# Altium footprint library Source Selector.PcbLib: 20 footprints (part 1 of 2)
Each footprint in its own frame and in the unit in brackets; x right, y up, seen from the top. Pads: shape width x height; smd on the part's side, far side on the other; paste and mask are expansions set on the pad; w line width, h text height; cw(c..) or ccw(c..) is an arc to the next point about the centre after c.
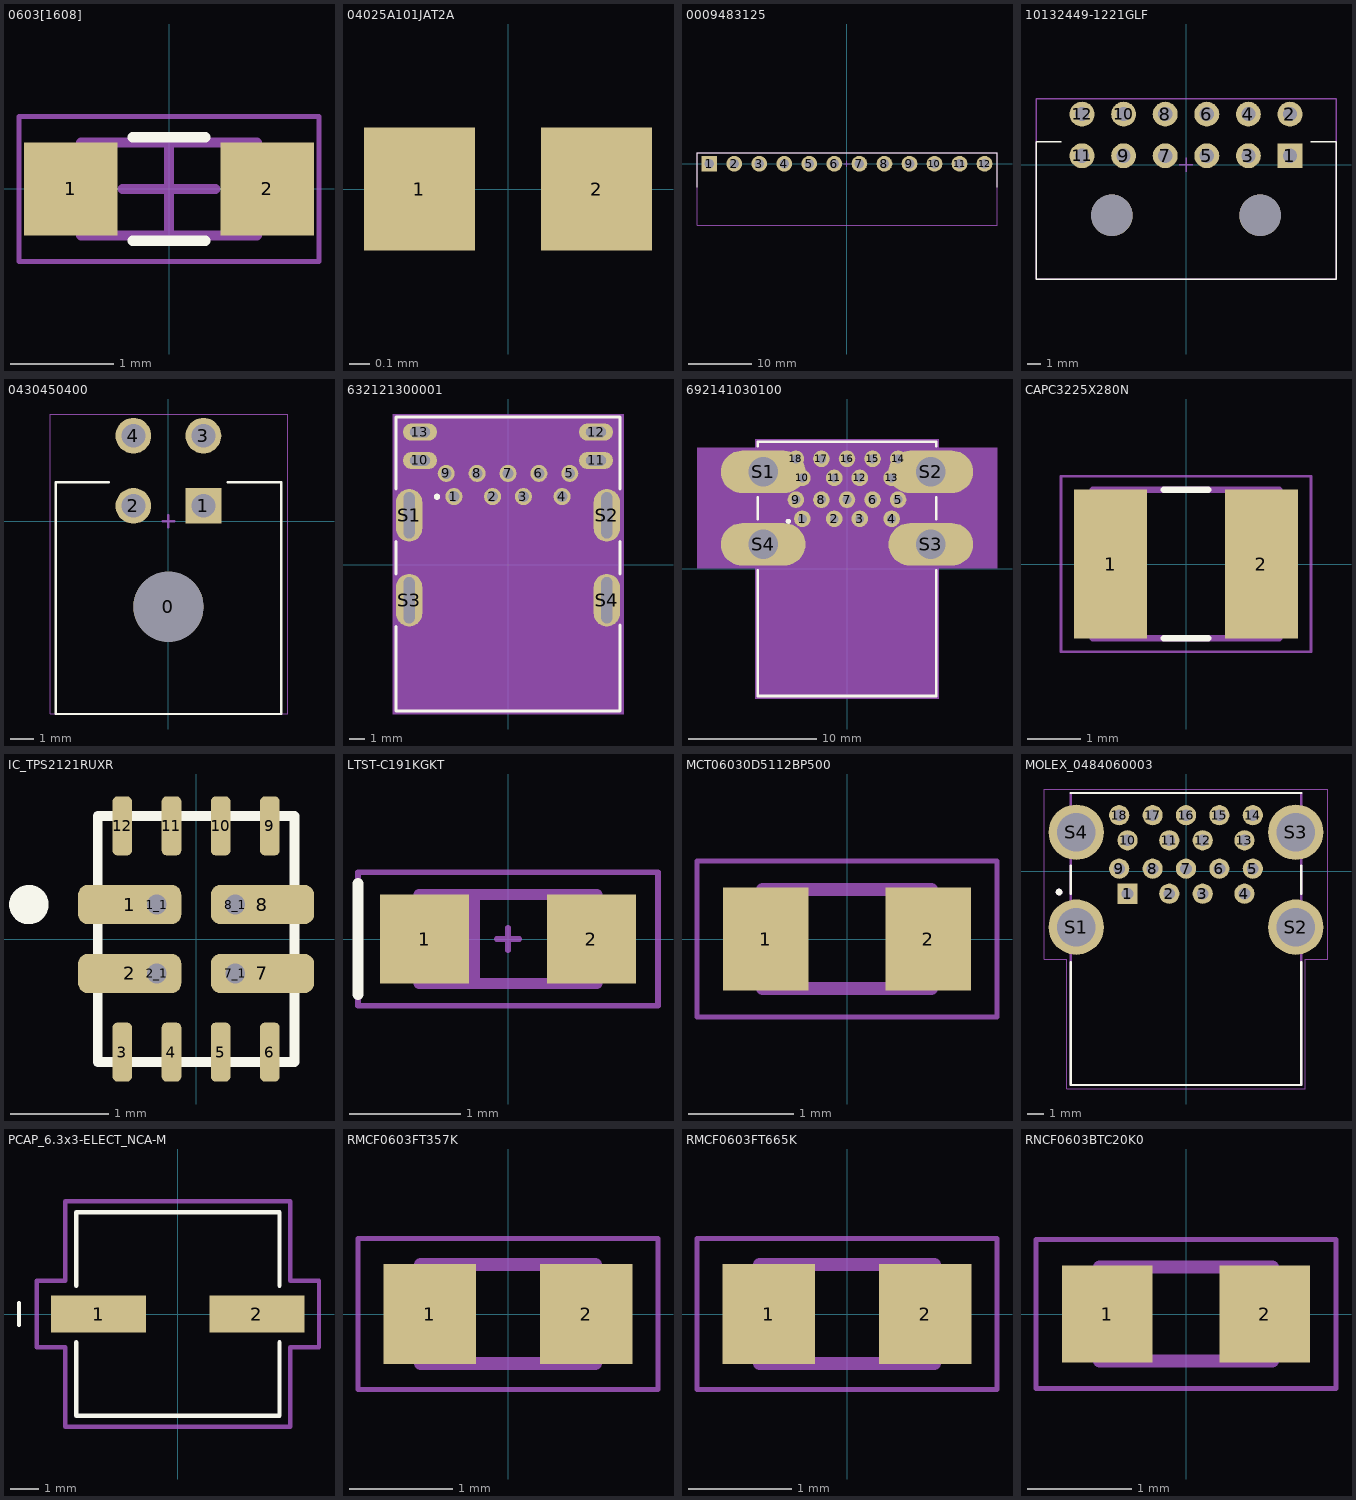
[diagram p0: the footprints below, top view; thin cyan lines are the x and y axes]

## 0603[1608] [mm]
pads (2):
  rect 0.9x0.9 smd mask+0.05: 1(-0.95,0) 2(0.95,0)
Top Overlay:
  lines w0.1: -0.35,-0.5 0.35,-0.5 ; -0.35,0.5 0.35,0.5
Top Component Outline:
  lines w0.05: -1.45,-0.7 -1.45,0.7 1.45,0.7 1.45,-0.7 -1.45,-0.7
  lines w0.1: -0.45,0 0.45,0 ; 0,-0.45 0,0.45 ; -0.85,-0.45 0.85,-0.45 0.85,0.45 -0.85,0.45 -0.85,-0.45
3D body "RESC1608X06N.step": height 0.55, standoff 0, extent -0.85,-0.45 0.85,0.45

## 04025A101JAT2A [mm]
pads (2):
  rect 0.54x0.6 smd: 1(-0.432,0) 2(0.432,0)
3D body "GRM1555C1H101JZ01J.STEP": height 0.48, standoff -0.02, extent -0.525,-0.271 0.475,0.279

## 0009483125 [mm] "CONN RCPT 12P 0.156 GOLD EDGE MT"
height 7.82
pads (12):
  rect 2.5x2.5 hole 1.52: 1(-21.78,0)
  round 2.5 hole 1.52: 2(-17.82,0) 3(-13.86,0) 4(-9.9,0) 5(-5.94,0) 6(-1.98,0) 7(1.98,0) 8(5.94,0) 9(9.9,0) 10(13.86,0) 11(17.82,0) 12(21.78,0)
Top Overlay:
  lines w0.1: -23.71,-3.75 -23.71,1.7 23.749,1.7 23.749,-3.75
Top Component Outline:
  lines w0.1: -0.508,0 0.508,0 ; 0,-0.508 0,0.508 ; -23.71,-9.7 -23.71,1.7 23.749,1.7 23.749,-9.7 -23.71,-9.7
3D body "009483125.stp": height 7.89, standoff -4, extent -23.71,-9.7 23.737,1.7

## 10132449-1221GLF [mm] "CONN HEADER R/A 12POS 3MM"
height 7.35
pads (14):
  rect 1.8x1.8 hole 1.02 mask+0.05: 1(7.5,0.65)
  round 1.8 hole 1.02 mask+0.05: 2(7.5,3.65) 3(4.5,0.65) 4(4.5,3.65) 5(1.5,0.65) 6(1.5,3.65) 7(-1.5,0.65) 8(-1.5,3.65) 9(-4.5,0.65) 10(-4.5,3.65) 11(-7.5,0.65) 12(-7.5,3.65)
  round 3 hole 3 mask+0.05: ""(-5.35,-3.65) ""(5.35,-3.65)
Top Overlay:
  lines w0.1: -9,1.65 -10.825,1.65 -10.825,-8.25 10.825,-8.25 10.825,1.65 9,1.65 ; -9,1.65 -9,1.65 ; 9,1.65 9,1.65
Top Component Outline:
  lines w0.1: -0.5,0 0.5,0 ; 0,-0.5 0,0.5 ; -10.825,-8.25 -10.825,4.75 10.825,4.75 10.825,-8.25 -10.825,-8.25
3D body "10132449-12xxxlf.stp": height 8.78, standoff -3.18, extent -10.825,-8.25 10.825,3.971

## 0430450400 [mm] "4-Pin Molex 3.00mm Pitch"
height 8.77
pads (5):
  round 3 hole 3 unplated mask+0.05: 0(0,-3.66)
  rect 1.53x1.53 hole 1.02 mask+0.05: 1(1.5,0.66)
  round 1.53 hole 1.02 mask+0.05: 2(-1.5,0.66) 3(1.5,3.66) 4(-1.5,3.66)
Top Overlay:
  lines w0.1: -2.54,1.675 -4.825,1.675 -4.825,-8.25 4.825,-8.25 4.825,1.675 2.54,1.675
Top Component Outline:
  lines w0.05: -5.05,-8.25 -5.05,4.59 5.1,4.59 5.1,-8.25 -5.05,-8.25
  lines w0.1: -0.25,0 0.25,0 ; 0,-0.25 0,0.25
3D body "430450400.stp": height 8.83, standoff -3.12, extent -5.05,-8.25 5.1,3.99

## 632121300001 [mm]
pads (17):
  round 1.1 hole 0.7: 1(-3.5,4.425) 2(-1,4.425) 3(1,4.425) 4(3.5,4.425) 5(4,5.925) 6(2,5.925) 7(0,5.925) 8(-2,5.925) 9(-4,5.925)
  oval 2.2x1.1 hole 0.7 slot 1.3 at 0 deg: 10(-5.7,6.765) 11(5.7,6.765) 12(5.7,8.605) 13(-5.7,8.605)
  oval 1.7x3.4 hole 0.7 slot 3 at 90 deg: S1(-6.4,3.215) S2(6.4,3.215) S3(-6.4,-2.285) S4(6.4,-2.285)
Top Overlay:
  circle w0.2: c-4.6,4.415 r0.1
  lines w0.2: -7.25,-3.985 -7.25,-9.455 7.25,-9.455 7.25,-3.885 ; -7.25,-0.585 -7.25,1.515 ; -7.25,4.915 -7.25,9.575 7.25,9.575 7.25,4.915 ; 7.25,-0.585 7.25,1.515
Mechanical 1:
  lines w0.01: -6.47,-3.785 -6.33,-3.785 ; -6.47,-0.785 -6.33,-0.785 ; -6.47,1.715 -6.33,1.715 ; -6.47,4.715 -6.33,4.715 ; -6.35,6.585 -6.35,6.945 ; -6.35,8.425 -6.35,8.785 ; -5.05,6.585 -5.05,6.945 ; -5.05,8.425 -5.05,8.785 ; 5.05,6.585 5.05,6.945 ; 5.05,8.425 5.05,8.785 ; 6.33,-3.785 6.47,-3.785 ; 6.33,-0.785 6.47,-0.785 ; 6.33,1.715 6.47,1.715 ; 6.33,4.715 6.47,4.715 ; 6.35,6.585 6.35,6.945 ; 6.35,8.425 6.35,8.785
Mechanical 13:
  lines w0.1: -0.1,-6.885 0.1,-7.085 ; 0.1,-6.385 0.1,-7.085 ; 0.3,-6.885 0.1,-7.085 ; -7.15,-7.085 7.15,-7.085 ; -7.15,-7.085 -7.15,-9.355 7.15,-9.355 7.15,-7.085 ; -7.15,-7.085 -7.15,9.475 7.15,9.475 7.15,-7.085
  text "PCB Edge" at -2.4,-6.285 h0.81
Mechanical 15:
  region: 7.5,-9.655 -7.45,-9.655 -7.45,9.775 7.5,9.775
3D body: height 8, standoff -0.43, extent -7.3,-9.5 7.2,9.6

## 692141030100 [mm]
pads (22):
  round 1.3 hole 0.7: 1(-3.5,3.93) 2(-1,3.93) 3(1,3.93) 4(3.5,3.93) 5(4,5.43) 6(2,5.43) 7(0,5.43) 8(-2,5.43) 9(-4,5.43) 10(-3.5,7.13) 11(-1,7.13) 12(1,7.13) 13(3.5,7.13) 14(4,8.63) 15(2,8.63) 16(0,8.63) 17(-2,8.63) 18(-4,8.63)
  oval 6.632x3.316 hole 2.3: S1(-6.57,7.61) S2(6.57,7.61) S3(6.57,1.93) S4(-6.57,1.93)
Top Overlay:
  circle w0.2: c-4.6,3.73 r0.1
  lines w0.2: -7,-0.1 -7,-9.95 7,-9.95 7,-0.1 ; -7,3.9 -7,5.6 ; -7,9.6 -7,9.95 7,9.95 7,9.6 ; 7,3.9 7,5.6
Mechanical 13:
  lines w0.1: -6.9,-9.85 6.9,-9.85 6.9,9.85 -6.9,9.85 -6.9,-9.85
Mechanical 15:
  region: 7.2,9.5 11.75,9.5 11.75,0.05 7.2,0.05 7.2,-10.15 -7.2,-10.15 -7.2,0.05 -11.75,0.05 -11.75,9.5 -7.2,9.5 -7.2,10.15 7.2,10.15

## CAPC3225X280N [mm]
pads (2):
  rect 1.37x2.81 smd: 1(-1.42,0) 2(1.42,0)
Top Overlay:
  lines w0.127: -0.42,-1.4 0.42,-1.4 ; -0.42,1.4 0.42,1.4
Mechanical 13:
  lines w0.127: -1.75,-1.4 1.75,-1.4 1.75,1.4 -1.75,1.4 -1.75,-1.4
Mechanical 15:
  lines w0.05: -2.355,-1.655 2.355,-1.655 2.355,1.655 -2.355,1.655 -2.355,-1.655
3D body "EMK325ABJ107MM-P.STEP": height 2.5, standoff 0, extent -1.6,-1.4 1.6,1.4

## IC_TPS2121RUXR [mm]
pads (16):
  rrect50% 1.05x0.4 smd mask+0: 1(-0.675,0.35) 2(-0.675,-0.35) 7(0.675,-0.35) 8(0.675,0.35)
  round 0.3 hole 0.2 mask+0: 1_1(-0.4,0.35) 2_1(-0.4,-0.35) 7_1(0.4,-0.35) 8_1(0.4,0.35)
  rrect50% 0.2x0.6 smd mask+0: 3(-0.75,-1.15) 4(-0.25,-1.15) 5(0.25,-1.15) 6(0.75,-1.15) 9(0.75,1.15) 10(0.25,1.15) 11(-0.25,1.15) 12(-0.75,1.15)
Top Overlay:
  circle w0.2: c-1.7,0.35 r0.1
  lines w0.1: -1,-1.25 1,-1.25 1,1.25 -1,1.25 -1,-1.25
Top Solder:
  region: -0.1,0.1 -1.25,0.1 -1.25,0.6 -0.1,0.6
  region: 1.25,0.1 0.1,0.1 0.1,0.6 1.25,0.6
  region: -0.1,-0.6 -1.25,-0.6 -1.25,-0.1 -0.1,-0.1
  region: -0.1,0.8 -0.4,0.8 -0.4,1.5 -0.1,1.5
  region: 0.4,0.8 0.1,0.8 0.1,1.5 0.4,1.5
  region: -0.1,-1.5 -0.4,-1.5 -0.4,-0.8 -0.1,-0.8
  region: 0.4,-1.5 0.1,-1.5 0.1,-0.8 0.4,-0.8
  region: -0.6,-1.5 -0.9,-1.5 -0.9,-0.8 -0.6,-0.8
  region: 0.9,-1.5 0.6,-1.5 0.6,-0.8 0.9,-0.8
  region: -0.6,0.8 -0.9,0.8 -0.9,1.5 -0.6,1.5
  region: 0.9,0.8 0.6,0.8 0.6,1.5 0.9,1.5
  region: 1.25,-0.6 0.1,-0.6 0.1,-0.1 1.25,-0.1
3D body: height 1, standoff 0, extent -1,-1.25 1,1.25

## LTST-C191KGKT [mm] "Green 571nm LED Indication - Discrete 2V 0603"
height 0.65
pads (2):
  rect 0.8x0.8 smd paste-3 mask+0.05: 1(-0.75,0) 2(0.75,0)
Top Overlay:
  lines w0.1: -1.35,-0.5 -1.35,0.5
Top Component Outline:
  rectangle: -0.8,-0.4 -0.25,0.4
  lines w0.05: -0.1,0 0.1,0 ; 0,-0.1 0,0.1 ; -1.35,-0.6 1.35,-0.6 1.35,0.6 -1.35,0.6 -1.35,-0.6
  lines w0.1: -0.8,-0.4 0.8,-0.4 0.8,0.4 -0.8,0.4 -0.8,-0.4
3D body "LTST-C190KRKT--3DModel-STEP-56544.STEP": height 0.8, standoff 0, extent -0.8,-0.4 0.8,0.4

## MCT06030D5112BP500 [mm]
pads (2):
  rect 0.81x0.98 smd: 1(-0.771,0) 2(0.771,0)
Mechanical 13:
  lines w0.127: -0.8,-0.47 0.8,-0.47 0.8,0.47 -0.8,0.47 -0.8,-0.47
Mechanical 15:
  lines w0.05: -1.425,-0.74 1.425,-0.74 1.425,0.74 -1.425,0.74 -1.425,-0.74
3D body "step_temp.STEP": height 0.55, standoff 0, extent -0.775,-0.425 0.775,0.425

## MOLEX_0484060003 [mm]
pads (22):
  rect 1.208x1.208 hole 0.7: 1(-3.5,-1.35)
  round 1.208 hole 0.7: 2(-1,-1.35) 3(1,-1.35) 4(3.5,-1.35) 5(4,0.15) 6(2,0.15) 7(0,0.15) 8(-2,0.15) 9(-4,0.15) 10(-3.5,1.85) 11(-1,1.85) 12(1,1.85) 13(3.5,1.85) 14(4,3.35) 15(2,3.35) 16(0,3.35) 17(-2,3.35) 18(-4,3.35)
  round 3.316 hole 2.3: S1(-6.57,-3.35) S2(6.57,-3.35) S3(6.57,2.33) S4(-6.57,2.33)
Top Overlay:
  circle w0.2: c-7.6,-1.25 r0.1
  lines w0.127: -6.9,-5.45 -6.9,-12.79 6.9,-12.79 6.9,-5.45 ; -6.9,-1.35 -6.9,0.35 ; -6.9,4.67 6.9,4.67 ; 6.9,-1.35 6.9,0.35
Mechanical 13:
  circle w0.2: c-7.6,-1.25 r0.1
  lines w0.127: -6.9,-12.79 6.9,-12.79 6.9,4.67 -6.9,4.67 -6.9,-12.79
Mechanical 15:
  lines w0.05: -8.5,-5.27 -8.5,4.92 8.5,4.92 8.5,-5.27 7.15,-5.27 7.15,-13.04 -7.15,-13.04 -7.15,-5.27 -8.5,-5.27
3D body: height 15.8, standoff 0, extent -7.25,-12.75 7.25,4.75

## PCAP_6.3x3-ELECT_NCA-M [mm]
pads (2):
  rect 3.291x1.287 smd paste+0 mask+0: 1(-2.75,0) 2(2.75,0)
Top Overlay:
  lines w0.152: -5.513,-0.381 -5.513,0.381 ; -3.531,-0.976 -3.531,-3.531 3.531,-3.531 3.531,-0.976 ; -3.531,0.976 -3.531,3.531 3.531,3.531 3.531,0.976
Mechanical 13:
  lines w0.025: -5.513,-0.381 -5.513,0.381
Mechanical 15:
  lines w0.152: -4.904,-1.152 -4.904,1.152 -3.912,1.152 -3.912,3.912 3.912,3.912 3.912,1.152 4.904,1.152 4.904,-1.152 3.912,-1.152 3.912,-3.912 -3.912,-3.912 -3.912,-1.152 -4.904,-1.152
3D body "PCAP_6_3x3-ELECT_NCA.step": height 3.25, standoff 0, extent -3.696,-3.404 3.696,3.404
3D body: height 0.25, standoff 0, extent 0,0 0.254,0.254

## RMCF0603FT357K [mm]
pads (2):
  rect 0.9x0.97 smd: 1(-0.76,0) 2(0.76,0)
Mechanical 13:
  lines w0.127: -0.85,-0.48 -0.85,0.48 0.85,0.48 0.85,-0.48 -0.85,-0.48
Mechanical 15:
  lines w0.05: -1.46,-0.735 -1.46,0.735 1.46,0.735 1.46,-0.735 -1.46,-0.735
3D body "step_temp.STEP": height 0.55, standoff 0, extent -0.775,-0.4 0.775,0.4

## RMCF0603FT665K [mm]
pads (2):
  rect 0.9x0.97 smd: 1(-0.76,0) 2(0.76,0)
Mechanical 13:
  lines w0.127: -0.85,-0.48 -0.85,0.48 0.85,0.48 0.85,-0.48 -0.85,-0.48
Mechanical 15:
  lines w0.05: -1.46,-0.735 -1.46,0.735 1.46,0.735 1.46,-0.735 -1.46,-0.735
3D body "step_temp.STEP": height 0.55, standoff 0, extent -0.775,-0.4 0.775,0.4

## RNCF0603BTC20K0 [mm]
pads (2):
  rect 0.87x0.93 smd: 1(-0.755,0) 2(0.755,0)
Mechanical 13:
  lines w0.127: -0.83,-0.45 -0.83,0.45 0.83,0.45 0.83,-0.45 -0.83,-0.45
Mechanical 15:
  lines w0.05: -1.44,-0.715 -1.44,0.715 1.44,0.715 1.44,-0.715 -1.44,-0.715
3D body "step_temp.STEP": height 0.55, standoff 0, extent -0.775,-0.4 0.775,0.4